# Altium schematic symbol library RC0805FR071KL.SchLib: 2 symbols
Pins are listed as number, name and electrical type; pins without a type are passive.

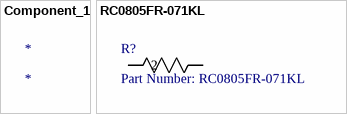
[diagram p0: symbols Component_1 to RC0805FR-071KL]

## Component_1
designator *

## RC0805FR-071KL
designator R?, comment Part Number: RC0805FR-071KL
No Description Available; Vendor: Yageo; Built_By: EMA_UL_Team; Manufacturer_Part_Number: RC0805FR-071KL; Copyright: Copyright (C) 2018 Accelerated Designs. All rights reserved; RefDes: RefDes; Type: DEV; Value: Value
footprint RC0805N
pins: 1, 2